# Altium schematic symbol library Shelestov_Resistors.SchLib: 53 symbols
Pins are listed as number, name and electrical type; pins without a type are passive.

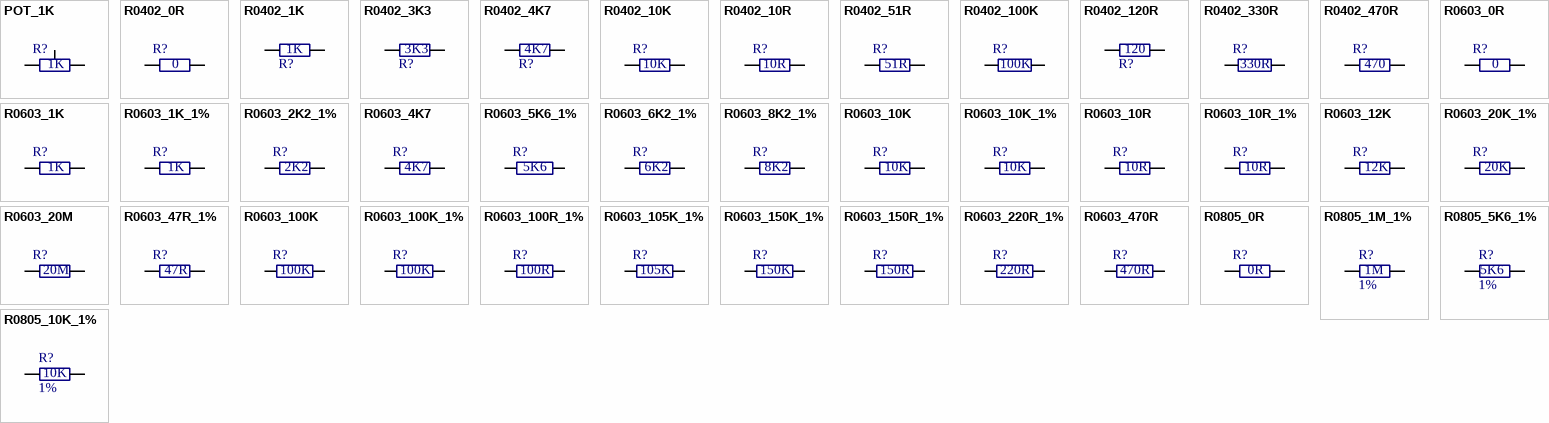
[diagram p0: symbols POT_1K to R0805_10K_1%]

## POT_1K
designator R?  Resistance: 1K
Resistor General; Tolerance: *; Size: 3362P
footprint POT_3362P
pins: 1, 2, 3

## R0402_0R
designator R?  Resistance: 0
Resistor General; Tolerance: *; Size: 0402; PriceKosmodromUAH: 0,04; PriceRCSUAH: 0,05; Kosmodrom: http://www.kosmodrom.com.ua/el.php?name=0402SMDRES0OM5; RCS: https://www.rcscomponents.kiev.ua/product/0-ohm-0402-wr04x000ptl-walsin_105536.html
footprint R0402_NOSILK
footprint R0402
pins: 1, 2

## R0402_1K
designator R?  Resistance: 1K
Resistor General; Tolerance: 1%; MP: RC0402FR-071KL; MF: YAGEO; Size: 0402; PriceRCSUAH: *; RCS: *; ComponentLink1Description: URLLCSC; ComponentLink1URL: https://lcsc.com/product-detail/Chip-Resistor-Surface-Mount_1KR-1001-1_C106235.html; LCSC: C106235; PriceLCSC: 0.0009
footprint R0402_NOSILK
footprint R0402
pins: 1, 2

## R0402_3K3
designator R?  Resistance: 3K3
Resistor General; Tolerance: 1%; MP: RC0402FR-073K3L; MF: YAGEO; Size: 0402; PriceRCSUAH: *; RCS: *; ComponentLink1Description: URLLCSC; ComponentLink1URL: https://lcsc.com/product-detail/Chip-Resistor-Surface-Mount_YAGEO-RC0402FR-073K3L_C137992.html; LCSC: C137992; PriceLCSC: 0.0009
footprint R0402_NOSILK
footprint R0402
pins: 1, 2

## R0402_4K7
designator R?  Resistance: 4K7
Resistor General; Tolerance: 1%; MP: RT0402FRE074K7L; MF: YAGEO; Size: 0402; ComponentLink1Description: URLLCSC; ComponentLink1URL: https://lcsc.com/product-detail/Chip-Resistor-Surface-Mount_YAGEO-RT0402FRE074K7L_C705701.html; LCSC: C705701; PriceLCSC: 0.0081
footprint R0402_NOSILK
footprint R0402
pins: 1, 2

## R0402_10K
designator R?  Resistance: 10K
Resistor General; Tolerance: 5%; Size: 0402; RCS: *; PriceRCSUAH: *
footprint R0402_NOSILK
footprint R0402
pins: 1, 2

## R0402_10R
designator R?  Resistance: 10R
Resistor General; Tolerance: 5%; Size: 0402; RCS: *; PriceRCSUAH: *
footprint R0402_NOSILK
footprint R0402
pins: 1, 2

## R0402_51R
designator R?  Resistance: 51R
Resistor General; Tolerance: *; Size: 0402; PriceKosmodromUAH: 0,03; PriceRCSUAH: 0,05; Kosmodrom: http://www.kosmodrom.com.ua/el.php?name=0402SMDRES51OM5; RCS: https://www.rcscomponents.kiev.ua/product/51-ohm-5-1-16w-50v-0402-rc0402jr-51r-hitano_11504.html
footprint R0402_NOSILK
footprint R0402
pins: 1, 2

## R0402_100K
designator R?  Resistance: 100K
Resistor General; Tolerance: 5%; Size: 0402; RCS: *; PriceRCSUAH: *
footprint R0402_NOSILK
footprint R0402
pins: 1, 2

## R0402_120R
designator R?  Resistance: 120
Resistor General; Tolerance: 1%; MP: RC0402FR-07120RL; MF: YAGEO; Size: 0402; PriceRCSUAH: *; RCS: *; ComponentLink1Description: URLLCSC; ComponentLink1URL: https://lcsc.com/product-detail/Chip-Resistor-Surface-Mount_YAGEO-RC0402FR-07120RL_C114758.html; LCSC: C137992; PriceLCSC: 0.001
footprint R0402_NOSILK
footprint R0402
pins: 1, 2

## R0402_330R
designator R?  Resistance: 330R
Resistor General; Tolerance: 5%; Size: 0402; RCS: *; PriceRCSUAH: *
footprint R0402_NOSILK
footprint R0402
pins: 1, 2

## R0402_470R
designator R?  Resistance: 470
Resistor General; Tolerance: 1%; Size: 0402; ComponentLink1Description: URLLCSC; ComponentLink1URL: https://lcsc.com/product-detail/Chip-Resistor-Surface-Mount_YAGEO-RC0402FR-07470RL_C114877.html; LCSC: C114877
footprint R0402_NOSILK
footprint R0402
pins: 1, 2

## R0603_0R
designator R?  Resistance: 0
Resistor General; Tolerance: *; Size: 0603; PriceRCSUAH: 0,06; RCS: https://www.rcscomponents.kiev.ua/product/0-ohm-5-0-1w-50v-0603-rc0603jr-0r-hitano-rezistor-smd_4159.html
footprint R0603
footprint R0603_NOSILK
pins: 1, 2

## R0603_1K
designator R?  Resistance: 1K
Resistor General; Tolerance: 5%; Size: 0603; PriceRCSUAH: 0,06; RCS: https://www.rcscomponents.kiev.ua/product/1-kohm-5-0-1w-50v-0603-0603waj0102t5e-uniohm_147392.html
footprint R0603
footprint R0603_NOSILK
pins: 1, 2

## R0603_1K_1%
designator R?  Resistance: 1K
Resistor General; Tolerance: 1%; Size: 0603; PriceRCSUAH: 0,07; RCS: https://www.rcscomponents.kiev.ua/product/1-kohm-1-0-1w-50v-0603-rc0603fr-1kr-hitano-rezistor-smd_95976.html
footprint R0603
footprint R0603_NOSILK
pins: 1, 2

## R0603_2K2_1%
designator R?  Resistance: 2K2
Resistor General; Tolerance: 1%; MF: YAGEO; MP: RC0603FR-072K2L; Size: 0603; ComponentLink1Description: URLLCSC; ComponentLink1URL: https://lcsc.com/product-detail/Chip-Resistor-Surface-Mount_2-2KR-2201-1_C114662.html; LCSC: C114662; PriceLCSC: 0.0016
footprint R0603
footprint R0603_NOSILK
pins: 1, 2

## R0603_4K7
designator R?  Resistance: 4K7
Resistor General; Tolerance: 5%; Owned: 3000; Size: 0603
footprint R0603
footprint R0603_NOSILK
pins: 1, 2

## R0603_5K6_1%
designator R?  Resistance: 5K6
Resistor General; Tolerance: 1%; MF: YAGEO; MP: RC0603FR-075K6L; Size: 0603; ComponentLink1Description: URLLCSC; ComponentLink1URL: https://lcsc.com/product-detail/Chip-Resistor-Surface-Mount_5-6KR-5601-1_C114627.html; LCSC: C114627; PriceLCSC: 0.0019
footprint R0603
footprint R0603_NOSILK
pins: 1, 2

## R0603_6K2_1%
designator R?  Resistance: 6K2
Resistor General; Tolerance: 1%; MF: YAGEO; MP: RC0603FR-076K2L; Size: 0603; ComponentLink1Description: URLLCSC; ComponentLink1URL: https://lcsc.com/product-detail/Chip-Resistor-Surface-Mount_6-2KR-6201-1_C114631.html; LCSC: C114631; PriceLCSC: 0.0022
footprint R0603
footprint R0603_NOSILK
pins: 1, 2

## R0603_8K2_1%
designator R?  Resistance: 8K2
Resistor General; Tolerance: 1%; MF: YAGEO; MP: RC0603FR-078K2L; Size: 0603; ComponentLink1Description: URLLCSC; ComponentLink1URL: https://lcsc.com/product-detail/Chip-Resistor-Surface-Mount_8-2KR-8201-1_C114637.html; LCSC: C114637; PriceLCSC: 0.0019
footprint R0603
footprint R0603_NOSILK
pins: 1, 2

## R0603_10K
designator R?  Resistance: 10K
Resistor General; Tolerance: 5%; Owned: 3000; Size: 0603; PriceRCSUAH: 0,06; RCS: https://www.rcscomponents.kiev.ua/product/10-kohm-5-0-1w-50v-0603-rc0603jr-0710kl-yageo_107096.html
footprint R0603
footprint R0603_NOSILK
pins: 1, 2

## R0603_10K_1%
designator R?  Resistance: 10K
Resistor General; Tolerance: 1%; MF: YAGEO; MP: RC0603FR-0710KL; Size: 0603; PriceRCSUAH: 0,07; RCS: https://www.rcscomponents.kiev.ua/product/10-kohm-1-0-1w-50v-0603-rc0603fr-10kr-hitano-rezistor-smd_8516.html; LCSC: C98220; ComponentLink1Description: URLCSC; ComponentLink1URL: https://lcsc.com/product-detail/Chip-Resistor-Surface-Mount_YAGEO-RC0603FR-0710KL_C98220.html; PriceLSCS: 0.0015
footprint R0603
footprint R0603_NOSILK
pins: 1, 2

## R0603_10R
designator R?  Resistance: 10R
Resistor General; Tolerance: 5%; Owned: 3000; Size: 0603; PriceRCSUAH: *; RCS: *
footprint R0603
footprint R0603_NOSILK
pins: 1, 2

## R0603_10R_1%
designator R?  Resistance: 10R
Resistor General; Tolerance: 1%; MF: YAGEO; MP: RC0603FR-0710RL; Size: 0603; ComponentLink1Description: URLLCSC; ComponentLink1URL: https://lcsc.com/product-detail/Chip-Resistor-Surface-Mount_10R-10R-1_C109318.html; LCSC: C109318; PriceLCSC: 0.0036
footprint R0603
footprint R0603_NOSILK
pins: 1, 2

## R0603_12K
designator R?  Resistance: 12K
Resistor General; Tolerance: 5%; Owned: 3000; Size: 0603; PriceRCSUAH: 0,06; RCS: https://www.rcscomponents.kiev.ua/product/12-kohm-5-0-1w-50v-0603-rc0603jr-12k0-hitano-rezistor-smd_1014.html
footprint R0603
footprint R0603_NOSILK
pins: 1, 2

## R0603_20K_1%
designator R?  Resistance: 20K
Resistor General; Tolerance: 1%; Size: 0603; PriceRCSUAH: 0,07; RCS: https://www.rcscomponents.kiev.ua/product/20-kohm-1-0-1w-50v-0603-rc0603fr-20kr-hitano-rezistor-smd_16748.html
footprint R0603
footprint R0603_NOSILK
pins: 1, 2

## R0603_20M
designator R?  Resistance: 20M
Resistor General; Tolerance: 5%; Size: 0603; PriceRCSUAH: 0,3; RCS: https://www.rcscomponents.kiev.ua/product/20-mohm-5-0-1w-50v-0603-rc0603jr-20mr-hitano-rezistor-smd_11238.html
footprint R0603
footprint R0603_NOSILK
pins: 1, 2

## R0603_47R_1%
designator R?  Resistance: 47R
Resistor General; Tolerance: 1%; MF: YAGEO; MP: RC0603FR-0747RL; Size: 0603; ComponentLink1Description: URLLCSC; ComponentLink1URL: https://lcsc.com/product-detail/Chip-Resistor-Surface-Mount_YAGEO-RC0603FR-0747RL_C114623.html; LCSC: C114623; PriceLCSC: 0.0017
footprint R0603
footprint R0603_NOSILK
pins: 1, 2

## R0603_100K
designator R?  Resistance: 100K
Resistor General; Tolerance: 5%; Owned: 3000; Size: 0603
footprint R0603
footprint R0603_NOSILK
pins: 1, 2

## R0603_100K_1%
designator R?  Resistance: 100K
Resistor General; Tolerance: 1%; MF: YAGEO; MP: AC0603FR-07100KL; Size: 0603; ComponentLink1Description: URLLCSC; ComponentLink1URL: https://lcsc.com/product-detail/Chip-Resistor-Surface-Mount_100KR-1003-1_C116674.html; LCSC: C116674; PriceLCSC: 0.0023
footprint R0603
footprint R0603_NOSILK
pins: 1, 2

## R0603_100R_1%
designator R?  Resistance: 100R
Resistor General; Tolerance: 1%; MF: YAGEO; MP: AC0603FR-07100RL; Size: 0603; ComponentLink1Description: URLLCSC; ComponentLink1URL: https://lcsc.com/product-detail/Chip-Resistor-Surface-Mount_100R-100R-1_C125923.html; LCSC: C125923; PriceLCSC: 0.0021
footprint R0603
footprint R0603_NOSILK
pins: 1, 2

## R0603_105K_1%
designator R?  Resistance: 105K
Resistor General; Tolerance: 1%; Size: 0603; PriceRCSUAH: 0,07; RCS: https://www.rcscomponents.kiev.ua/product/105-kohm-1-0-1w-50v-0603-rc0603fr-105k0-hitano-rezistor-smd_39565.html
footprint R0603
footprint R0603_NOSILK
pins: 1, 2

## R0603_150K_1%
designator R?  Resistance: 150K
Resistor General; Tolerance: 1%; MF: YAGEO; MP: RC0603FR-07150KL; Size: 0603; ComponentLink1Description: URLLCSC; ComponentLink1URL: https://lcsc.com/product-detail/Chip-Resistor-Surface-Mount_150KR-1503-1_C114660.html; LCSC: C114660; PriceLCSC: 0.0018
footprint R0603
footprint R0603_NOSILK
pins: 1, 2

## R0603_150R_1%
designator R?  Resistance: 150R
Resistor General; Tolerance: 1%; MF: YAGEO; MP: RC0603FR-07150RL; Size: 0603; ComponentLink1Description: URLLCSC; ComponentLink1URL: https://lcsc.com/product-detail/Chip-Resistor-Surface-Mount_150R-150R-1_C114608.html; LCSC: C114608; PriceLCSC: 0.0018
footprint R0603
footprint R0603_NOSILK
pins: 1, 2

## R0603_220R_1%
designator R?  Resistance: 220R
Resistor General; Tolerance: 1%; MF: YAGEO; MP: RC0603FR-07220RL; Size: 0603; ComponentLink1Description: URLLCSC; ComponentLink1URL: https://lcsc.com/product-detail/Chip-Resistor-Surface-Mount_220R-220R-1_C107696.html; LCSC: C107696; PriceLCSC: 0.0016
footprint R0603
footprint R0603_NOSILK
pins: 1, 2

## R0603_470R
designator R?  Resistance: 470R
Resistor General; Tolerance: 5%; Owned: 3000; Size: 0603
footprint R0603
footprint R0603_NOSILK
pins: 1, 2

## R0805_0R
designator R?  Resistance: 0R
Resistor General; Owned: 3000; Tolerance: *; Size: 0805
footprint R0805
pins: 1, 2

## R0805_1M_1%
designator R?  Tolerance: 1%  Resistance: 1M
Resistor General; Size: 0805; PriceRCSUAH: 0,11; PriceKosmodromUAH: 0,17; RCS: https://www.rcscomponents.kiev.ua/product/1-mohm-1-0-125w-150v-0805-rc0805fr-1mr-hitano_11448.html; Kosmodrom: http://www.kosmodrom.com.ua/el.php?name=SMDRES08051MOM1
footprint R0805
pins: 1, 2

## R0805_5K6_1%
designator R?  Tolerance: 1%  Resistance: 5K6
Resistor General; Owned: 0; Size: 0805; RCS: *
footprint R0805
pins: 1, 2

## R0805_10K_1%
designator R?  Tolerance: 1%  Resistance: 10K
Resistor General; Owned: 0; Size: 0805; RCS: *
footprint R0805
pins: 1, 2

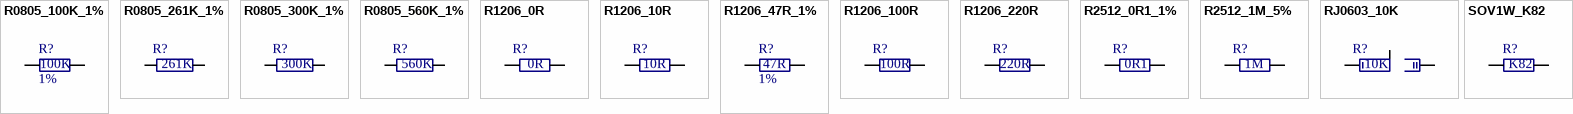
[diagram p1: symbols R0805_100K_1% to SOV1W_K82]

## R0805_100K_1%
designator R?  Tolerance: 1%  Resistance: 100K
Resistor General; Owned: 0; Size: 0805; RCS: *
footprint R0805
pins: 1, 2

## R0805_261K_1%
designator R?  Resistance: 261K
Resistor General; Tolerance: 1%; Size: 0805; PriceRCSUAH: 0,11; RCS: https://www.rcscomponents.kiev.ua/product/261-kohm-1-0-125w-150v-0805-rc0805fr-261k-hitano-rezistor-smd_27749.html
footprint R0805
pins: 1, 2

## R0805_300K_1%
designator R?  Resistance: 300K
Resistor General; Tolerance: 1%; Size: 0805; PriceKosmodromUAH: 0,12; PriceRCSUAH: N/A; Kosmodrom: http://www.kosmodrom.com.ua/el.php?name=SMDRES0805300KOM1; RCS: https://www.rcscomponents.kiev.ua/product/300-kohm-1-0-125w-150v-0805-rezistor-smd_3009.html
footprint R0805
pins: 1, 2

## R0805_560K_1%
designator R?  Resistance: 560K
Resistor General; Tolerance: 1%; Size: 0805; PriceRCSUAH: 0,11; PriceKosmodromUAH: 0,17; RCS: https://www.rcscomponents.kiev.ua/product/560-kohm-1-0-125w-150v-0805-rc0805fr-560kr-hitano_1487.html; Kosmodrom: http://www.kosmodrom.com.ua/el.php?name=SMDRES0805560KOM1
footprint R0805
pins: 1, 2

## R1206_0R
designator R?  Resistance: 0R
Resistor General; Tolerance: *; Size: 1206
footprint R1206
pins: 1, 2

## R1206_10R
designator R?  Resistance: 10R
Resistor General; Tolerance: *; Size: 1206; RCS: *
footprint R1206
pins: 1, 2

## R1206_47R_1%
designator R?  Tolerance: 1%  Resistance: 47R
Resistor General; Size: 1206; RCS: *
footprint R1206
pins: 1, 2

## R1206_100R
designator R?  Resistance: 100R
Resistor General; Tolerance: *; Size: 1206; RCS: *
footprint R1206
pins: 1, 2

## R1206_220R
designator R?  Resistance: 220R
Resistor General; Tolerance: *; Size: 1206; RCS: *
footprint R1206
pins: 1, 2

## R2512_0R1_1%
designator R?  Resistance: 0R1
Resistor General; Tolerance: 1%; TODO: Fix Precision: 5% instead of 1%; Size: 2512; PriceKosmodromUAH: 2,25; Kosmodrom: http://www.kosmodrom.com.ua/el.php?name=SMDRES25120.1OM5
footprint R2512
pins: 1, 2

## R2512_1M_5%
designator R?  Resistance: 1M
Resistor General; Tolerance: 5%; Size: 2512; PriceRCSUAH: 0,75; RCS: https://www.rcscomponents.kiev.ua/product/1-mohm-5-1w-2512-rc2512jk-1mr-hitano-rezistor-smd_51251.html
footprint R2512
pins: 1, 2

## RJ0603_10K
designator R?  Resistance: 10K
Resistor General; Tolerance: 5%; Owned: 3000; Size: 0603; RCS: https://www.rcscomponents.kiev.ua/product/10-kohm-5-0-1w-50v-0603-rc0603jr-0710kl-yageo_107096.html; PriceRCSUAH: 0,06
footprint RJ0603
pins: 1, 2, 3

## SOV1W_K82
designator R?  Resistance: K82
Resistor Soviet 1W; Tolerance: 5%; Owned: 3000; Size: 0603; RCS: https://www.rcscomponents.kiev.ua/product/10-kohm-5-0-1w-50v-0603-rc0603jr-0710kl-yageo_107096.html; PriceRCSUAH: 0,06
footprint SOV1W
pins: 1, 2